# EAGLE library part PCA9306 (library PCA9306)
Bidirectional I2C level shifter. NOT compatible with all available part number pinout schemes- DOUBLE CHECK!!! http://www.ti.com/lit/ds/symlink/pca9306.pdf
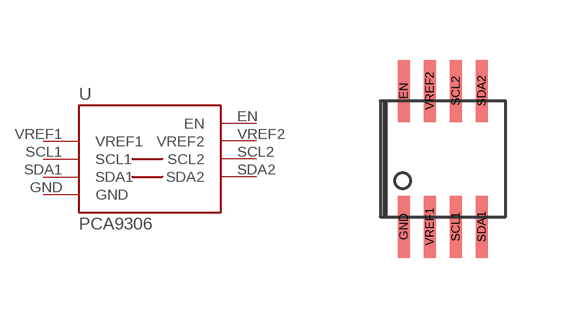
[diagram p0: symbol with the pads of SM-8; footprint SM-8]

Designator prefix U

## PCA9306 (AVAILABILITY: Unavailable; DESCRIPTION: Dual Bi-Directional I2C-Bus and SMBus Voltage Level-Translator; MF: Texas Instruments; MP: PCA9306; PACKAGE: SM-8; PRICE: None)  [SM-8]
EN  EN
GND  GND
SCL1  SCL1
SCL2  SCL2
SDA1  SDA1
SDA2  SDA2
VREF1  VREF1
VREF2  VREF2

## Footprint SM-8 (pad centres in mm)
http://www.ti.com/lit/ds/symlink/pca9306.pdf
smd 0.3 x 1.55: EN -0.975,1.7; GND -0.975,-1.7; SCL1 0.325,-1.7; SCL2 0.325,1.7; SDA1 0.975,-1.7; SDA2 0.975,1.7; VREF1 -0.325,-1.7; VREF2 -0.325,1.7